# Altium schematic symbol library Microchip Thermal Management.SchLib: 361 symbols (part 9 of 9)
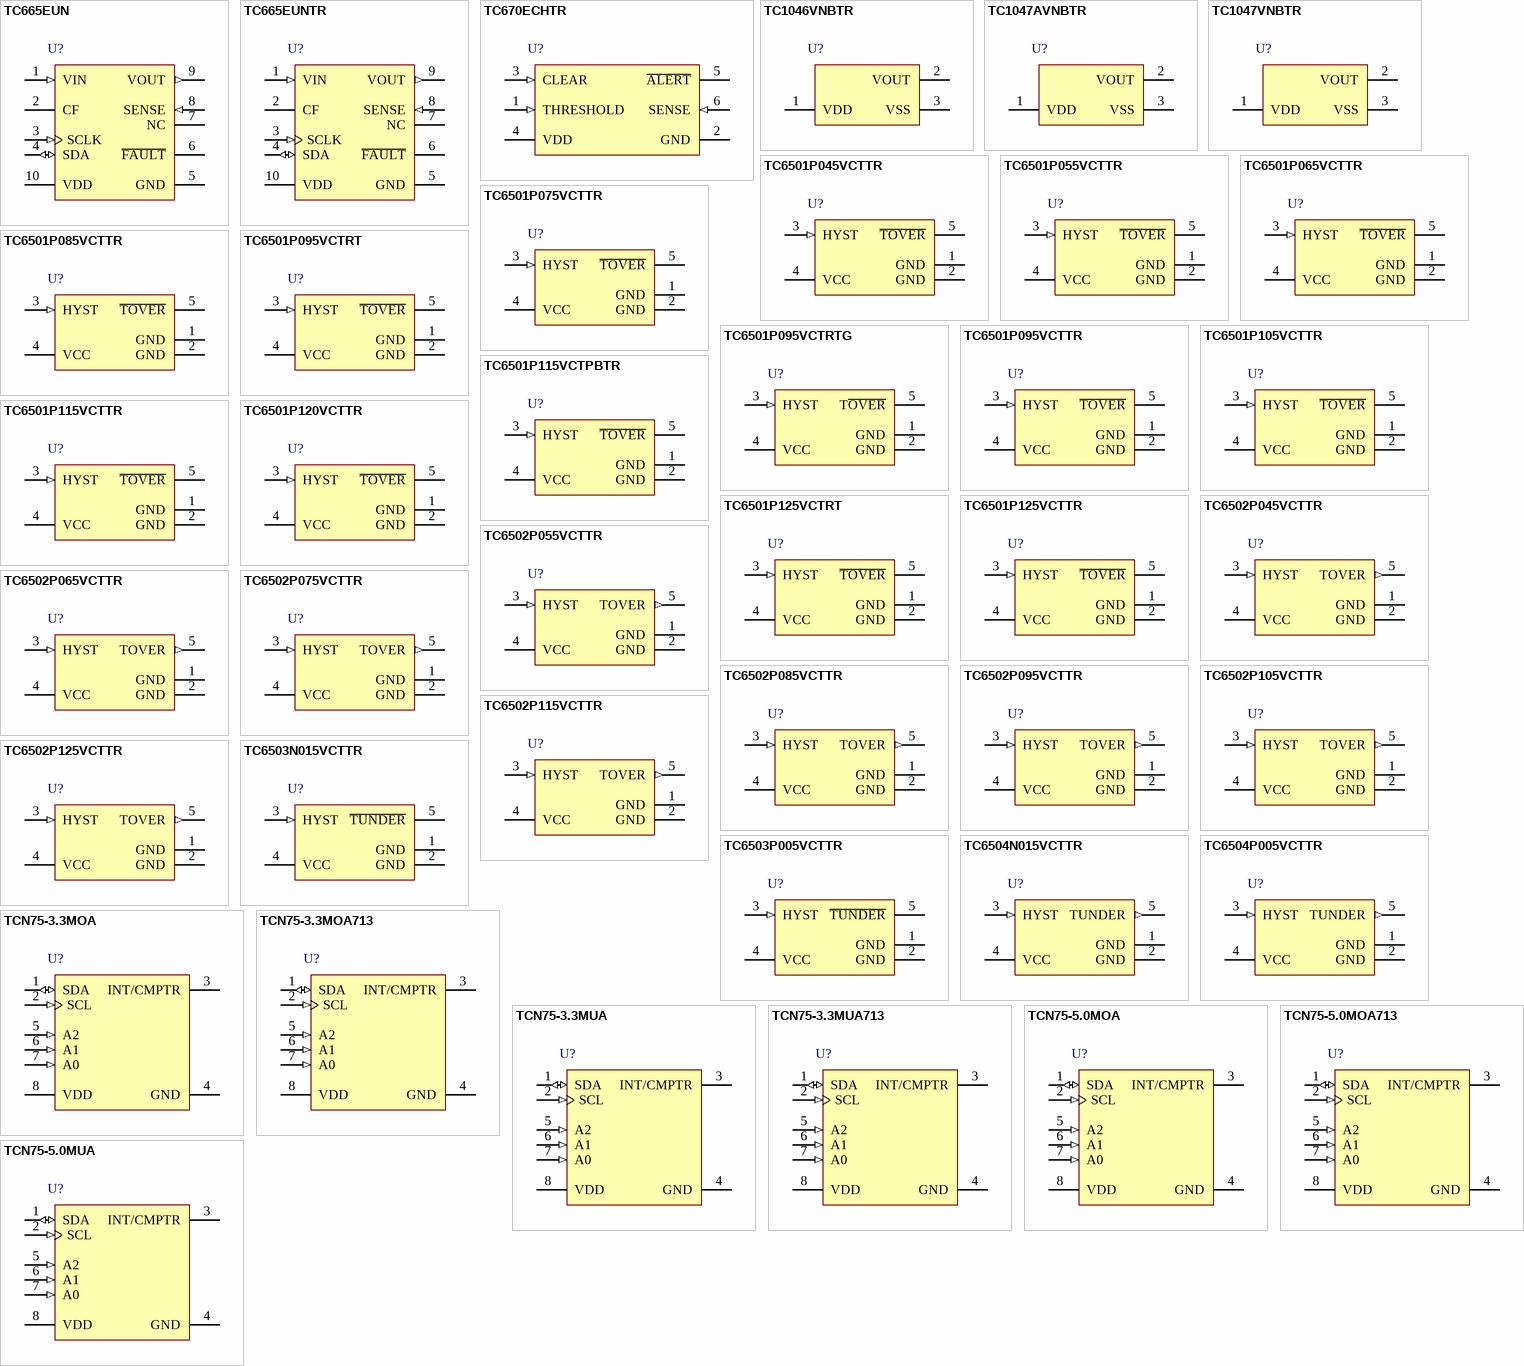
[diagram p17: symbols TC665EUN to TCN75-5.0MUA]

## TC6501P125VCTRT
designator U?
Ultra Small Temperature Switches with Pin Selectable Hysteresis, 5-Pin SOT-23; Manufacturer: Microchip; PartNumber: TC6501P125VCTRT; DatasheetVersion: revD, Jan-2004; PackageVersion: revBB, Aug-2009; PackageReference: SOT-23-CT5; PackageDescription: 5-Lead Plastic Small Outline Transistor (CT) [SOT-23]; Supplier 1: Digi-Key; Supplier Part Number 1: TC6501P125VCTRT-ND; Mounting Technology: Surface Mount; Code_IPC: SOT23-5; ComponentLink1Description: Manufacturer URL; ComponentLink1URL: http://www.microchip.com/; ComponentLink2Description: Datasheet; ComponentLink2URL: http://ww1.microchip.com/downloads/en/DeviceDoc/21451d.pdf; ComponentLink3Description: Package Specification; ComponentLink3URL: http://www.microchip.com/stellent/groups/techpub_sg/documents/packagingspec/en012702.pdf
footprint SOT-23-CT5_N (SOT23, 5-Leads, Body 2.9x1.6mm, Pitch 0.95mm, Lead Span 2.7mm, IPC Medium Density)
footprint SOT-23-CT5_L (SOT23, 5-Leads, Body 2.9x1.6mm, Pitch 0.95mm, Lead Span 2.7mm, IPC High Density)
footprint SOT-23-CT5_M (SOT23, 5-Leads, Body 2.9x1.6mm, Pitch 0.95mm, Lead Span 2.7mm, IPC Low Density)
pins: 1 GND (power), 2 GND (power), 3 HYST (in), 4 VCC (power), 5 ~{TOVER} (oc)

## TC6501P125VCTTR
designator U?
Ultra Small Temperature Switches with Pin Selectable Hysteresis, 5-Pin SOT-23, -55°C to +125°C Temperature, Tape and Reel; Manufacturer: Microchip; PartNumber: TC6501P125VCTTR; DatasheetVersion: revD, Jan-2004; PackageVersion: revBB, Aug-2009; PackageReference: SOT-23-CT5; PackageDescription: 5-Lead Plastic Small Outline Transistor (CT) [SOT-23]; Supplier 1: Digi-Key; Supplier Part Number 1: TC6501P125VCTTR-ND; Mounting Technology: Surface Mount; Code_IPC: SOT23-5; ComponentLink1Description: Manufacturer URL; ComponentLink1URL: http://www.microchip.com/; ComponentLink2Description: Datasheet; ComponentLink2URL: http://ww1.microchip.com/downloads/en/DeviceDoc/21451d.pdf; ComponentLink3Description: Package Specification; ComponentLink3URL: http://www.microchip.com/stellent/groups/techpub_sg/documents/packagingspec/en012702.pdf
footprint SOT-23-CT5_N (SOT23, 5-Leads, Body 2.9x1.6mm, Pitch 0.95mm, Lead Span 2.7mm, IPC Medium Density)
footprint SOT-23-CT5_L (SOT23, 5-Leads, Body 2.9x1.6mm, Pitch 0.95mm, Lead Span 2.7mm, IPC High Density)
footprint SOT-23-CT5_M (SOT23, 5-Leads, Body 2.9x1.6mm, Pitch 0.95mm, Lead Span 2.7mm, IPC Low Density)
pins: 1 GND (power), 2 GND (power), 3 HYST (in), 4 VCC (power), 5 ~{TOVER} (oc)

## TC6502P045VCTTR
designator U?
Ultra Small Temperature Switches with Pin Selectable Hysteresis, 5-Pin SOT-23, -55°C to +125°C Temperature, Tape and Reel; Manufacturer: Microchip; PartNumber: TC6502P045VCTTR; DatasheetVersion: revD, Jan-2004; PackageVersion: revBB, Aug-2009; PackageReference: SOT-23-CT5; PackageDescription: 5-Lead Plastic Small Outline Transistor (CT) [SOT-23]; Supplier 1: Digi-Key; Supplier Part Number 1: TC6502P045VCTTR-ND; Mounting Technology: Surface Mount; Code_IPC: SOT23-5; ComponentLink1Description: Manufacturer URL; ComponentLink1URL: http://www.microchip.com/; ComponentLink2Description: Datasheet; ComponentLink2URL: http://ww1.microchip.com/downloads/en/DeviceDoc/21451d.pdf; ComponentLink3Description: Package Specification; ComponentLink3URL: http://www.microchip.com/stellent/groups/techpub_sg/documents/packagingspec/en012702.pdf
footprint SOT-23-CT5_N (SOT23, 5-Leads, Body 2.9x1.6mm, Pitch 0.95mm, Lead Span 2.7mm, IPC Medium Density)
footprint SOT-23-CT5_L (SOT23, 5-Leads, Body 2.9x1.6mm, Pitch 0.95mm, Lead Span 2.7mm, IPC High Density)
footprint SOT-23-CT5_M (SOT23, 5-Leads, Body 2.9x1.6mm, Pitch 0.95mm, Lead Span 2.7mm, IPC Low Density)
pins: 1 GND (power), 2 GND (power), 3 HYST (in), 4 VCC (power), 5 TOVER (out)

## TC6502P055VCTTR
designator U?
Ultra Small Temperature Switches with Pin Selectable Hysteresis, 5-Pin SOT-23, -55°C to +125°C Temperature, Tape and Reel; Manufacturer: Microchip; PartNumber: TC6502P055VCTTR; DatasheetVersion: revD, Jan-2004; PackageVersion: revBB, Aug-2009; PackageReference: SOT-23-CT5; PackageDescription: 5-Lead Plastic Small Outline Transistor (CT) [SOT-23]; Supplier 1: Digi-Key; Supplier Part Number 1: TC6502P055VCTR-ND; Mounting Technology: Surface Mount; Code_IPC: SOT23-5; ComponentLink1Description: Manufacturer URL; ComponentLink1URL: http://www.microchip.com/; ComponentLink2Description: Datasheet; ComponentLink2URL: http://ww1.microchip.com/downloads/en/DeviceDoc/21451d.pdf; ComponentLink3Description: Package Specification; ComponentLink3URL: http://www.microchip.com/stellent/groups/techpub_sg/documents/packagingspec/en012702.pdf
footprint SOT-23-CT5_N (SOT23, 5-Leads, Body 2.9x1.6mm, Pitch 0.95mm, Lead Span 2.7mm, IPC Medium Density)
footprint SOT-23-CT5_L (SOT23, 5-Leads, Body 2.9x1.6mm, Pitch 0.95mm, Lead Span 2.7mm, IPC High Density)
footprint SOT-23-CT5_M (SOT23, 5-Leads, Body 2.9x1.6mm, Pitch 0.95mm, Lead Span 2.7mm, IPC Low Density)
pins: 1 GND (power), 2 GND (power), 3 HYST (in), 4 VCC (power), 5 TOVER (out)

## TC6502P065VCTTR
designator U?
Ultra Small Temperature Switches with Pin Selectable Hysteresis, 5-Pin SOT-23, -55°C to +125°C Temperature, Tape and Reel; Manufacturer: Microchip; PartNumber: TC6502P065VCTTR; DatasheetVersion: revD, Jan-2004; PackageVersion: revBB, Aug-2009; PackageReference: SOT-23-CT5; PackageDescription: 5-Lead Plastic Small Outline Transistor (CT) [SOT-23]; Supplier 1: Digi-Key; Supplier Part Number 1: TC6502P065VCTR-ND; Mounting Technology: Surface Mount; Code_IPC: SOT23-5; ComponentLink1Description: Manufacturer URL; ComponentLink1URL: http://www.microchip.com/; ComponentLink2Description: Datasheet; ComponentLink2URL: http://ww1.microchip.com/downloads/en/DeviceDoc/21451d.pdf; ComponentLink3Description: Package Specification; ComponentLink3URL: http://www.microchip.com/stellent/groups/techpub_sg/documents/packagingspec/en012702.pdf
footprint SOT-23-CT5_N (SOT23, 5-Leads, Body 2.9x1.6mm, Pitch 0.95mm, Lead Span 2.7mm, IPC Medium Density)
footprint SOT-23-CT5_L (SOT23, 5-Leads, Body 2.9x1.6mm, Pitch 0.95mm, Lead Span 2.7mm, IPC High Density)
footprint SOT-23-CT5_M (SOT23, 5-Leads, Body 2.9x1.6mm, Pitch 0.95mm, Lead Span 2.7mm, IPC Low Density)
pins: 1 GND (power), 2 GND (power), 3 HYST (in), 4 VCC (power), 5 TOVER (out)

## TC6502P075VCTTR
designator U?
Ultra Small Temperature Switches with Pin Selectable Hysteresis, 5-Pin SOT-23, -55°C to +125°C Temperature, Tape and Reel; Manufacturer: Microchip; PartNumber: TC6502P075VCTTR; DatasheetVersion: revD, Jan-2004; PackageVersion: revBB, Aug-2009; PackageReference: SOT-23-CT5; PackageDescription: 5-Lead Plastic Small Outline Transistor (CT) [SOT-23]; Supplier 1: Digi-Key; Supplier Part Number 1: TC6502P075VCTR-ND; Mounting Technology: Surface Mount; Code_IPC: SOT23-5; ComponentLink1Description: Manufacturer URL; ComponentLink1URL: http://www.microchip.com/; ComponentLink2Description: Datasheet; ComponentLink2URL: http://ww1.microchip.com/downloads/en/DeviceDoc/21451d.pdf; ComponentLink3Description: Package Specification; ComponentLink3URL: http://www.microchip.com/stellent/groups/techpub_sg/documents/packagingspec/en012702.pdf
footprint SOT-23-CT5_N (SOT23, 5-Leads, Body 2.9x1.6mm, Pitch 0.95mm, Lead Span 2.7mm, IPC Medium Density)
footprint SOT-23-CT5_L (SOT23, 5-Leads, Body 2.9x1.6mm, Pitch 0.95mm, Lead Span 2.7mm, IPC High Density)
footprint SOT-23-CT5_M (SOT23, 5-Leads, Body 2.9x1.6mm, Pitch 0.95mm, Lead Span 2.7mm, IPC Low Density)
pins: 1 GND (power), 2 GND (power), 3 HYST (in), 4 VCC (power), 5 TOVER (out)

## TC6502P085VCTTR
designator U?
Ultra Small Temperature Switches with Pin Selectable Hysteresis, 5-Pin SOT-23, -55°C to +125°C Temperature, Tape and Reel; Manufacturer: Microchip; PartNumber: TC6502P085VCTTR; DatasheetVersion: revD, Jan-2004; PackageVersion: revBB, Aug-2009; PackageReference: SOT-23-CT5; PackageDescription: 5-Lead Plastic Small Outline Transistor (CT) [SOT-23]; Supplier 1: Digi-Key; Supplier Part Number 1: TC6502P085VCTR-ND; Mounting Technology: Surface Mount; Code_IPC: SOT23-5; ComponentLink1Description: Manufacturer URL; ComponentLink1URL: http://www.microchip.com/; ComponentLink2Description: Datasheet; ComponentLink2URL: http://ww1.microchip.com/downloads/en/DeviceDoc/21451d.pdf; ComponentLink3Description: Package Specification; ComponentLink3URL: http://www.microchip.com/stellent/groups/techpub_sg/documents/packagingspec/en012702.pdf
footprint SOT-23-CT5_N (SOT23, 5-Leads, Body 2.9x1.6mm, Pitch 0.95mm, Lead Span 2.7mm, IPC Medium Density)
footprint SOT-23-CT5_L (SOT23, 5-Leads, Body 2.9x1.6mm, Pitch 0.95mm, Lead Span 2.7mm, IPC High Density)
footprint SOT-23-CT5_M (SOT23, 5-Leads, Body 2.9x1.6mm, Pitch 0.95mm, Lead Span 2.7mm, IPC Low Density)
pins: 1 GND (power), 2 GND (power), 3 HYST (in), 4 VCC (power), 5 TOVER (out)

## TC6502P095VCTTR
designator U?
Ultra Small Temperature Switches with Pin Selectable Hysteresis, 5-Pin SOT-23, -55°C to +125°C Temperature, Tape and Reel; Manufacturer: Microchip; PartNumber: TC6502P095VCTTR; DatasheetVersion: revD, Jan-2004; PackageVersion: revBB, Aug-2009; PackageReference: SOT-23-CT5; PackageDescription: 5-Lead Plastic Small Outline Transistor (CT) [SOT-23]; Supplier 1: Digi-Key; Supplier Part Number 1: TC6502P095VCTR-ND; Mounting Technology: Surface Mount; Code_IPC: SOT23-5; ComponentLink1Description: Manufacturer URL; ComponentLink1URL: http://www.microchip.com/; ComponentLink2Description: Datasheet; ComponentLink2URL: http://ww1.microchip.com/downloads/en/DeviceDoc/21451d.pdf; ComponentLink3Description: Package Specification; ComponentLink3URL: http://www.microchip.com/stellent/groups/techpub_sg/documents/packagingspec/en012702.pdf
footprint SOT-23-CT5_N (SOT23, 5-Leads, Body 2.9x1.6mm, Pitch 0.95mm, Lead Span 2.7mm, IPC Medium Density)
footprint SOT-23-CT5_L (SOT23, 5-Leads, Body 2.9x1.6mm, Pitch 0.95mm, Lead Span 2.7mm, IPC High Density)
footprint SOT-23-CT5_M (SOT23, 5-Leads, Body 2.9x1.6mm, Pitch 0.95mm, Lead Span 2.7mm, IPC Low Density)
pins: 1 GND (power), 2 GND (power), 3 HYST (in), 4 VCC (power), 5 TOVER (out)

## TC6502P105VCTTR
designator U?
Ultra Small Temperature Switches with Pin Selectable Hysteresis, 5-Pin SOT-23, -55°C to +125°C Temperature, Tape and Reel; Manufacturer: Microchip; PartNumber: TC6502P105VCTTR; DatasheetVersion: revD, Jan-2004; PackageVersion: revBB, Aug-2009; PackageReference: SOT-23-CT5; PackageDescription: 5-Lead Plastic Small Outline Transistor (CT) [SOT-23]; Supplier 1: Digi-Key; Supplier Part Number 1: TC6502P105VCTR-ND; Mounting Technology: Surface Mount; Code_IPC: SOT23-5; ComponentLink1Description: Manufacturer URL; ComponentLink1URL: http://www.microchip.com/; ComponentLink2Description: Datasheet; ComponentLink2URL: http://ww1.microchip.com/downloads/en/DeviceDoc/21451d.pdf; ComponentLink3Description: Package Specification; ComponentLink3URL: http://www.microchip.com/stellent/groups/techpub_sg/documents/packagingspec/en012702.pdf
footprint SOT-23-CT5_N (SOT23, 5-Leads, Body 2.9x1.6mm, Pitch 0.95mm, Lead Span 2.7mm, IPC Medium Density)
footprint SOT-23-CT5_L (SOT23, 5-Leads, Body 2.9x1.6mm, Pitch 0.95mm, Lead Span 2.7mm, IPC High Density)
footprint SOT-23-CT5_M (SOT23, 5-Leads, Body 2.9x1.6mm, Pitch 0.95mm, Lead Span 2.7mm, IPC Low Density)
pins: 1 GND (power), 2 GND (power), 3 HYST (in), 4 VCC (power), 5 TOVER (out)

## TC6502P115VCTTR
designator U?
Ultra Small Temperature Switches with Pin Selectable Hysteresis, 5-Pin SOT-23, -55°C to +125°C Temperature, Tape and Reel; Manufacturer: Microchip; PartNumber: TC6502P115VCTTR; DatasheetVersion: revD, Jan-2004; PackageVersion: revBB, Aug-2009; PackageReference: SOT-23-CT5; PackageDescription: 5-Lead Plastic Small Outline Transistor (CT) [SOT-23]; Supplier 1: Digi-Key; Supplier Part Number 1: TC6502P115VCTR-ND; Mounting Technology: Surface Mount; Code_IPC: SOT23-5; ComponentLink1Description: Manufacturer URL; ComponentLink1URL: http://www.microchip.com/; ComponentLink2Description: Datasheet; ComponentLink2URL: http://ww1.microchip.com/downloads/en/DeviceDoc/21451d.pdf; ComponentLink3Description: Package Specification; ComponentLink3URL: http://www.microchip.com/stellent/groups/techpub_sg/documents/packagingspec/en012702.pdf
footprint SOT-23-CT5_N (SOT23, 5-Leads, Body 2.9x1.6mm, Pitch 0.95mm, Lead Span 2.7mm, IPC Medium Density)
footprint SOT-23-CT5_L (SOT23, 5-Leads, Body 2.9x1.6mm, Pitch 0.95mm, Lead Span 2.7mm, IPC High Density)
footprint SOT-23-CT5_M (SOT23, 5-Leads, Body 2.9x1.6mm, Pitch 0.95mm, Lead Span 2.7mm, IPC Low Density)
pins: 1 GND (power), 2 GND (power), 3 HYST (in), 4 VCC (power), 5 TOVER (out)

## TC6502P125VCTTR
designator U?
Ultra Small Temperature Switches with Pin Selectable Hysteresis, 5-Pin SOT-23, -55°C to +125°C Temperature, Tape and Reel; Manufacturer: Microchip; PartNumber: TC6502P125VCTTR; DatasheetVersion: revD, Jan-2004; PackageVersion: revBB, Aug-2009; PackageReference: SOT-23-CT5; PackageDescription: 5-Lead Plastic Small Outline Transistor (CT) [SOT-23]; Supplier 1: Digi-Key; Supplier Part Number 1: TC6502P125VCTTR-ND; Mounting Technology: Surface Mount; Code_IPC: SOT23-5; ComponentLink1Description: Manufacturer URL; ComponentLink1URL: http://www.microchip.com/; ComponentLink2Description: Datasheet; ComponentLink2URL: http://ww1.microchip.com/downloads/en/DeviceDoc/21451d.pdf; ComponentLink3Description: Package Specification; ComponentLink3URL: http://www.microchip.com/stellent/groups/techpub_sg/documents/packagingspec/en012702.pdf
footprint SOT-23-CT5_N (SOT23, 5-Leads, Body 2.9x1.6mm, Pitch 0.95mm, Lead Span 2.7mm, IPC Medium Density)
footprint SOT-23-CT5_L (SOT23, 5-Leads, Body 2.9x1.6mm, Pitch 0.95mm, Lead Span 2.7mm, IPC High Density)
footprint SOT-23-CT5_M (SOT23, 5-Leads, Body 2.9x1.6mm, Pitch 0.95mm, Lead Span 2.7mm, IPC Low Density)
pins: 1 GND (power), 2 GND (power), 3 HYST (in), 4 VCC (power), 5 TOVER (out)

## TC6503N015VCTTR
designator U?
Ultra Small Temperature Switches with Pin Selectable Hysteresis, 5-Pin SOT-23, -55°C to +125°C Temperature, Tape and Reel; Manufacturer: Microchip; PartNumber: TC6503N015VCTTR; DatasheetVersion: revD, Jan-2004; PackageVersion: revBB, Aug-2009; PackageReference: SOT-23-CT5; PackageDescription: 5-Lead Plastic Small Outline Transistor (CT) [SOT-23]; Supplier 1: Digi-Key; Supplier Part Number 1: TC6503N015VCTTR-ND; Mounting Technology: Surface Mount; Code_IPC: SOT23-5; ComponentLink1Description: Manufacturer URL; ComponentLink1URL: http://www.microchip.com/; ComponentLink2Description: Datasheet; ComponentLink2URL: http://ww1.microchip.com/downloads/en/DeviceDoc/21451d.pdf; ComponentLink3Description: Package Specification; ComponentLink3URL: http://www.microchip.com/stellent/groups/techpub_sg/documents/packagingspec/en012702.pdf
footprint SOT-23-CT5_N (SOT23, 5-Leads, Body 2.9x1.6mm, Pitch 0.95mm, Lead Span 2.7mm, IPC Medium Density)
footprint SOT-23-CT5_L (SOT23, 5-Leads, Body 2.9x1.6mm, Pitch 0.95mm, Lead Span 2.7mm, IPC High Density)
footprint SOT-23-CT5_M (SOT23, 5-Leads, Body 2.9x1.6mm, Pitch 0.95mm, Lead Span 2.7mm, IPC Low Density)
pins: 1 GND (power), 2 GND (power), 3 HYST (in), 4 VCC (power), 5 ~{TUNDER} (oc)

## TC6503P005VCTTR
designator U?
Ultra Small Temperature Switches with Pin Selectable Hysteresis, 5-Pin SOT-23, -55°C to +125°C Temperature, Tape and Reel; Manufacturer: Microchip; PartNumber: TC6503P005VCTTR; DatasheetVersion: revD, Jan-2004; PackageVersion: revBB, Aug-2009; PackageReference: SOT-23-CT5; PackageDescription: 5-Lead Plastic Small Outline Transistor (CT) [SOT-23]; Supplier 1: Digi-Key; Supplier Part Number 1: TC6503P005VCTTR-ND; Mounting Technology: Surface Mount; Code_IPC: SOT23-5; ComponentLink1Description: Manufacturer URL; ComponentLink1URL: http://www.microchip.com/; ComponentLink2Description: Datasheet; ComponentLink2URL: http://ww1.microchip.com/downloads/en/DeviceDoc/21451d.pdf; ComponentLink3Description: Package Specification; ComponentLink3URL: http://www.microchip.com/stellent/groups/techpub_sg/documents/packagingspec/en012702.pdf
footprint SOT-23-CT5_N (SOT23, 5-Leads, Body 2.9x1.6mm, Pitch 0.95mm, Lead Span 2.7mm, IPC Medium Density)
footprint SOT-23-CT5_L (SOT23, 5-Leads, Body 2.9x1.6mm, Pitch 0.95mm, Lead Span 2.7mm, IPC High Density)
footprint SOT-23-CT5_M (SOT23, 5-Leads, Body 2.9x1.6mm, Pitch 0.95mm, Lead Span 2.7mm, IPC Low Density)
pins: 1 GND (power), 2 GND (power), 3 HYST (in), 4 VCC (power), 5 ~{TUNDER} (oc)

## TC6504N015VCTTR
designator U?
Ultra Small Temperature Switches with Pin Selectable Hysteresis, 5-Pin SOT-23, -55°C to +125°C Temperature, Tape and Reel; Manufacturer: Microchip; PartNumber: TC6504N015VCTTR; DatasheetVersion: revD, Jan-2004; PackageVersion: revBB, Aug-2009; PackageReference: SOT-23-CT5; PackageDescription: 5-Lead Plastic Small Outline Transistor (CT) [SOT-23]; Supplier 1: Digi-Key; Supplier Part Number 1: TC6504N015VCTTR-ND; Mounting Technology: Surface Mount; Code_IPC: SOT23-5; ComponentLink1Description: Manufacturer URL; ComponentLink1URL: http://www.microchip.com/; ComponentLink2Description: Datasheet; ComponentLink2URL: http://ww1.microchip.com/downloads/en/DeviceDoc/21451d.pdf; ComponentLink3Description: Package Specification; ComponentLink3URL: http://www.microchip.com/stellent/groups/techpub_sg/documents/packagingspec/en012702.pdf
footprint SOT-23-CT5_N (SOT23, 5-Leads, Body 2.9x1.6mm, Pitch 0.95mm, Lead Span 2.7mm, IPC Medium Density)
footprint SOT-23-CT5_L (SOT23, 5-Leads, Body 2.9x1.6mm, Pitch 0.95mm, Lead Span 2.7mm, IPC High Density)
footprint SOT-23-CT5_M (SOT23, 5-Leads, Body 2.9x1.6mm, Pitch 0.95mm, Lead Span 2.7mm, IPC Low Density)
pins: 1 GND (power), 2 GND (power), 3 HYST (in), 4 VCC (power), 5 TUNDER (out)

## TC6504P005VCTTR
designator U?
Ultra Small Temperature Switches with Pin Selectable Hysteresis, 5-Pin SOT-23, -55°C to +125°C Temperature, Tape and Reel; Manufacturer: Microchip; PartNumber: TC6504P005VCTTR; DatasheetVersion: revD, Jan-2004; PackageVersion: revBB, Aug-2009; PackageReference: SOT-23-CT5; PackageDescription: 5-Lead Plastic Small Outline Transistor (CT) [SOT-23]; Supplier 1: Digi-Key; Supplier Part Number 1: TC6504P005VCTTR-ND; Mounting Technology: Surface Mount; Code_IPC: SOT23-5; ComponentLink1Description: Manufacturer URL; ComponentLink1URL: http://www.microchip.com/; ComponentLink2Description: Datasheet; ComponentLink2URL: http://ww1.microchip.com/downloads/en/DeviceDoc/21451d.pdf; ComponentLink3Description: Package Specification; ComponentLink3URL: http://www.microchip.com/stellent/groups/techpub_sg/documents/packagingspec/en012702.pdf
footprint SOT-23-CT5_N (SOT23, 5-Leads, Body 2.9x1.6mm, Pitch 0.95mm, Lead Span 2.7mm, IPC Medium Density)
footprint SOT-23-CT5_L (SOT23, 5-Leads, Body 2.9x1.6mm, Pitch 0.95mm, Lead Span 2.7mm, IPC High Density)
footprint SOT-23-CT5_M (SOT23, 5-Leads, Body 2.9x1.6mm, Pitch 0.95mm, Lead Span 2.7mm, IPC Low Density)
pins: 1 GND (power), 2 GND (power), 3 HYST (in), 4 VCC (power), 5 TUNDER (out)

## TCN75-3.3MOA
designator U?
2-Wire Serial Temperature Sensor and Thermal Monitor, 8-Pin SOIC, -55°C to +125°C Temperature; Manufacturer: Microchip; PartNumber: TCN75-3.3MOA; DatasheetVersion: revC, Feb-2006; PackageVersion: revBB, Aug-2009; PackageReference: SOIC-OA8; PackageDescription: 8-Lead Plastic Small Outline (OA) - Narrow, 3.90mm Body [SOIC]; Supplier 1: Digi-Key; Supplier Part Number 1: TCN75-3.3MOA-ND; Mounting Technology: Surface Mount; Code_IPC: SOIC127P600-8; ComponentLink1Description: Manufacturer URL; ComponentLink1URL: http://www.microchip.com/; ComponentLink2Description: Datasheet; ComponentLink2URL: http://ww1.microchip.com/downloads/en/DeviceDoc/21490C.pdf; ComponentLink3Description: Package Specification; ComponentLink3URL: http://www.microchip.com/stellent/groups/techpub_sg/documents/packagingspec/en012702.pdf
footprint SOIC-OA8_N (SOIC, 8-Leads, Body 4.9x3.9mm, Pitch 1.27mm, IPC Medium Density)
footprint SOIC-OA8_L (SOIC, 8-Leads, Body 4.9x3.9mm, Pitch 1.27mm, IPC High Density)
footprint SOIC-OA8_M (SOIC, 8-Leads, Body 4.9x3.9mm, Pitch 1.27mm, IPC Low Density)
pins: 1 SDA (io), 2 SCL (in), 3 INT/CMPTR (oc), 4 GND (power), 5 A2 (in), 6 A1 (in), 7 A0 (in), 8 VDD (power)

## TCN75-3.3MOA713
designator U?
2-Wire Serial Temperature Sensor and Thermal Monitor, 8-Pin SOIC, -55°C to +125°C Temperature, Tape and Reel; Manufacturer: Microchip; PartNumber: TCN75-3.3MOA713; DatasheetVersion: revC, Feb-2006; PackageVersion: revBB, Aug-2009; PackageReference: SOIC-OA8; PackageDescription: 8-Lead Plastic Small Outline (OA) - Narrow, 3.90mm Body [SOIC]; Supplier 1: Digi-Key; Supplier Part Number 1: TCN75-3.3MOA713-ND; Mounting Technology: Surface Mount; Code_IPC: SOIC127P600-8; ComponentLink1Description: Manufacturer URL; ComponentLink1URL: http://www.microchip.com/; ComponentLink2Description: Datasheet; ComponentLink2URL: http://ww1.microchip.com/downloads/en/DeviceDoc/21490C.pdf; ComponentLink3Description: Package Specification; ComponentLink3URL: http://www.microchip.com/stellent/groups/techpub_sg/documents/packagingspec/en012702.pdf
footprint SOIC-OA8_N (SOIC, 8-Leads, Body 4.9x3.9mm, Pitch 1.27mm, IPC Medium Density)
footprint SOIC-OA8_L (SOIC, 8-Leads, Body 4.9x3.9mm, Pitch 1.27mm, IPC High Density)
footprint SOIC-OA8_M (SOIC, 8-Leads, Body 4.9x3.9mm, Pitch 1.27mm, IPC Low Density)
pins: 1 SDA (io), 2 SCL (in), 3 INT/CMPTR (oc), 4 GND (power), 5 A2 (in), 6 A1 (in), 7 A0 (in), 8 VDD (power)

## TCN75-3.3MUA
designator U?
2-Wire Serial Temperature Sensor and Thermal Monitor, 8-Pin MSOP, -55°C to +125°C Temperature; Manufacturer: Microchip; PartNumber: TCN75-3.3MUA; DatasheetVersion: revC, Feb-2006; PackageVersion: revBB, Aug-2009; PackageReference: MSOP-UA8; PackageDescription: 8-Lead Plastic Micro Small Outline Package (UA) [MSOP]; Supplier 1: Digi-Key; Supplier Part Number 1: TCN75-3.3MUA-ND; Mounting Technology: Surface Mount; Code_JEDEC: MO-187-AA; ComponentLink1Description: Manufacturer URL; ComponentLink1URL: http://www.microchip.com/; ComponentLink2Description: Datasheet; ComponentLink2URL: http://ww1.microchip.com/downloads/en/DeviceDoc/21490C.pdf; ComponentLink3Description: Package Specification; ComponentLink3URL: http://www.microchip.com/stellent/groups/techpub_sg/documents/packagingspec/en012702.pdf
footprint MSOP-UA8_N (TSOP, 8-Leads, Body 3x3mm, Pitch 0.65mm, IPC Medium Density)
footprint MSOP-UA8_L (TSOP, 8-Leads, Body 3x3mm, Pitch 0.65mm, IPC High Density)
footprint MSOP-UA8_M (TSOP, 8-Leads, Body 3x3mm, Pitch 0.65mm, IPC Low Density)
pins: 1 SDA (io), 2 SCL (in), 3 INT/CMPTR (oc), 4 GND (power), 5 A2 (in), 6 A1 (in), 7 A0 (in), 8 VDD (power)

## TCN75-3.3MUA713
designator U?
2-Wire Serial Temperature Sensor and Thermal Monitor, 8-Pin MSOP, -55°C to +125°C Temperature, Tape and Reel; Manufacturer: Microchip; PartNumber: TCN75-3.3MUA713; DatasheetVersion: revC, Feb-2006; PackageVersion: revBB, Aug-2009; PackageReference: MSOP-UA8; PackageDescription: 8-Lead Plastic Micro Small Outline Package (UA) [MSOP]; Supplier 1: Digi-Key; Supplier Part Number 1: TCN75-3.3MUA713-ND; Mounting Technology: Surface Mount; Code_JEDEC: MO-187-AA; ComponentLink1Description: Manufacturer URL; ComponentLink1URL: http://www.microchip.com/; ComponentLink2Description: Datasheet; ComponentLink2URL: http://ww1.microchip.com/downloads/en/DeviceDoc/21490C.pdf; ComponentLink3Description: Package Specification; ComponentLink3URL: http://www.microchip.com/stellent/groups/techpub_sg/documents/packagingspec/en012702.pdf
footprint MSOP-UA8_N (TSOP, 8-Leads, Body 3x3mm, Pitch 0.65mm, IPC Medium Density)
footprint MSOP-UA8_L (TSOP, 8-Leads, Body 3x3mm, Pitch 0.65mm, IPC High Density)
footprint MSOP-UA8_M (TSOP, 8-Leads, Body 3x3mm, Pitch 0.65mm, IPC Low Density)
pins: 1 SDA (io), 2 SCL (in), 3 INT/CMPTR (oc), 4 GND (power), 5 A2 (in), 6 A1 (in), 7 A0 (in), 8 VDD (power)

## TCN75-5.0MOA
designator U?
2-Wire Serial Temperature Sensor and Thermal Monitor, 8-Pin SOIC, -55°C to +125°C Temperature; Manufacturer: Microchip; PartNumber: TCN75-5.0MOA; DatasheetVersion: revC, Feb-2006; PackageVersion: revBB, Aug-2009; PackageReference: SOIC-OA8; PackageDescription: 8-Lead Plastic Small Outline (OA) - Narrow, 3.90mm Body [SOIC]; Supplier 1: Digi-Key; Supplier Part Number 1: TCN75-5.0MOA-ND; Mounting Technology: Surface Mount; Code_IPC: SOIC127P600-8; ComponentLink1Description: Manufacturer URL; ComponentLink1URL: http://www.microchip.com/; ComponentLink2Description: Datasheet; ComponentLink2URL: http://ww1.microchip.com/downloads/en/DeviceDoc/21490C.pdf; ComponentLink3Description: Package Specification; ComponentLink3URL: http://www.microchip.com/stellent/groups/techpub_sg/documents/packagingspec/en012702.pdf
footprint SOIC-OA8_N (SOIC, 8-Leads, Body 4.9x3.9mm, Pitch 1.27mm, IPC Medium Density)
footprint SOIC-OA8_L (SOIC, 8-Leads, Body 4.9x3.9mm, Pitch 1.27mm, IPC High Density)
footprint SOIC-OA8_M (SOIC, 8-Leads, Body 4.9x3.9mm, Pitch 1.27mm, IPC Low Density)
pins: 1 SDA (io), 2 SCL (in), 3 INT/CMPTR (oc), 4 GND (power), 5 A2 (in), 6 A1 (in), 7 A0 (in), 8 VDD (power)

## TCN75-5.0MOA713
designator U?
2-Wire Serial Temperature Sensor and Thermal Monitor, 8-Pin SOIC, -55°C to +125°C Temperature, Tape and Reel; Manufacturer: Microchip; PartNumber: TCN75-5.0MOA713; DatasheetVersion: revC, Feb-2006; PackageVersion: revBB, Aug-2009; PackageReference: SOIC-OA8; PackageDescription: 8-Lead Plastic Small Outline (OA) - Narrow, 3.90mm Body [SOIC]; Supplier 1: Digi-Key; Supplier Part Number 1: TCN75-5.0MOA713-ND; Mounting Technology: Surface Mount; Code_IPC: SOIC127P600-8; ComponentLink1Description: Manufacturer URL; ComponentLink1URL: http://www.microchip.com/; ComponentLink2Description: Datasheet; ComponentLink2URL: http://ww1.microchip.com/downloads/en/DeviceDoc/21490C.pdf; ComponentLink3Description: Package Specification; ComponentLink3URL: http://www.microchip.com/stellent/groups/techpub_sg/documents/packagingspec/en012702.pdf
footprint SOIC-OA8_N (SOIC, 8-Leads, Body 4.9x3.9mm, Pitch 1.27mm, IPC Medium Density)
footprint SOIC-OA8_L (SOIC, 8-Leads, Body 4.9x3.9mm, Pitch 1.27mm, IPC High Density)
footprint SOIC-OA8_M (SOIC, 8-Leads, Body 4.9x3.9mm, Pitch 1.27mm, IPC Low Density)
pins: 1 SDA (io), 2 SCL (in), 3 INT/CMPTR (oc), 4 GND (power), 5 A2 (in), 6 A1 (in), 7 A0 (in), 8 VDD (power)

## TCN75-5.0MUA
designator U?
2-Wire Serial Temperature Sensor and Thermal Monitor, 8-Pin MSOP, -55°C to +125°C Temperature; Manufacturer: Microchip; PartNumber: TCN75-5.0MUA; DatasheetVersion: revC, Feb-2006; PackageVersion: revBB, Aug-2009; PackageReference: MSOP-UA8; PackageDescription: 8-Lead Plastic Micro Small Outline Package (UA) [MSOP]; Supplier 1: Digi-Key; Supplier Part Number 1: TCN75-5.0MUA-ND; Mounting Technology: Surface Mount; Code_JEDEC: MO-187-AA; ComponentLink1Description: Manufacturer URL; ComponentLink1URL: http://www.microchip.com/; ComponentLink2Description: Datasheet; ComponentLink2URL: http://ww1.microchip.com/downloads/en/DeviceDoc/21490C.pdf; ComponentLink3Description: Package Specification; ComponentLink3URL: http://www.microchip.com/stellent/groups/techpub_sg/documents/packagingspec/en012702.pdf
footprint MSOP-UA8_N (TSOP, 8-Leads, Body 3x3mm, Pitch 0.65mm, IPC Medium Density)
footprint MSOP-UA8_L (TSOP, 8-Leads, Body 3x3mm, Pitch 0.65mm, IPC High Density)
footprint MSOP-UA8_M (TSOP, 8-Leads, Body 3x3mm, Pitch 0.65mm, IPC Low Density)
pins: 1 SDA (io), 2 SCL (in), 3 INT/CMPTR (oc), 4 GND (power), 5 A2 (in), 6 A1 (in), 7 A0 (in), 8 VDD (power)

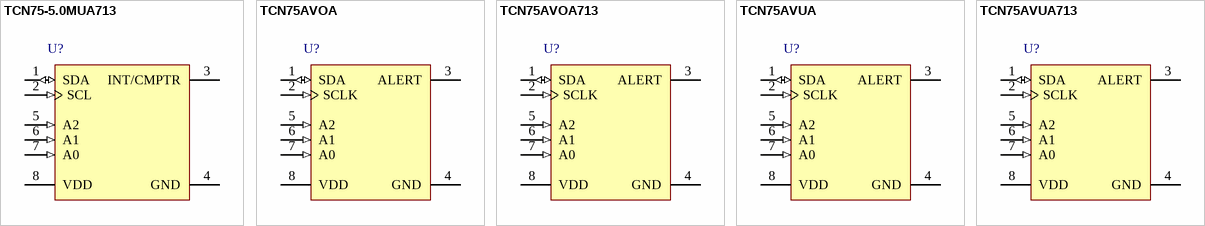
[diagram p9: symbols TCN75-5.0MUA713 to TCN75AVUA713]

## TCN75-5.0MUA713
designator U?
2-Wire Serial Temperature Sensor and Thermal Monitor, 8-Pin MSOP, -55°C to +125°C Temperature, Tape and Reel; Manufacturer: Microchip; PartNumber: TCN75-5.0MUA713; DatasheetVersion: revC, Feb-2006; PackageVersion: revBB, Aug-2009; PackageReference: MSOP-UA8; PackageDescription: 8-Lead Plastic Micro Small Outline Package (UA) [MSOP]; Supplier 1: Digi-Key; Supplier Part Number 1: TCN75-5.0MUA713-ND; Mounting Technology: Surface Mount; Code_JEDEC: MO-187-AA; ComponentLink1Description: Manufacturer URL; ComponentLink1URL: http://www.microchip.com/; ComponentLink2Description: Datasheet; ComponentLink2URL: http://ww1.microchip.com/downloads/en/DeviceDoc/21490C.pdf; ComponentLink3Description: Package Specification; ComponentLink3URL: http://www.microchip.com/stellent/groups/techpub_sg/documents/packagingspec/en012702.pdf
footprint MSOP-UA8_N (TSOP, 8-Leads, Body 3x3mm, Pitch 0.65mm, IPC Medium Density)
footprint MSOP-UA8_L (TSOP, 8-Leads, Body 3x3mm, Pitch 0.65mm, IPC High Density)
footprint MSOP-UA8_M (TSOP, 8-Leads, Body 3x3mm, Pitch 0.65mm, IPC Low Density)
pins: 1 SDA (io), 2 SCL (in), 3 INT/CMPTR (oc), 4 GND (power), 5 A2 (in), 6 A1 (in), 7 A0 (in), 8 VDD (power)

## TCN75AVOA
designator U?
2-Wire Serial Temperature Sensor, 8-Pin SOIC, Extended Temperature; Manufacturer: Microchip; PartNumber: TCN75AVOA; DatasheetVersion: revC, Nov-2006; PackageVersion: revBB, Aug-2009; PackageReference: SOIC-OA8; PackageDescription: 8-Lead Plastic Small Outline (OA) - Narrow, 3.90mm Body [SOIC]; Supplier 1: Digi-Key; Supplier Part Number 1: TCN75AVOA-ND; Mounting Technology: Surface Mount; Code_IPC: SOIC127P600-8; ComponentLink1Description: Manufacturer URL; ComponentLink1URL: http://www.microchip.com/; ComponentLink2Description: Datasheet; ComponentLink2URL: http://ww1.microchip.com/downloads/en/DeviceDoc/21935c.pdf; ComponentLink3Description: Package Specification; ComponentLink3URL: http://www.microchip.com/stellent/groups/techpub_sg/documents/packagingspec/en012702.pdf
footprint SOIC-OA8_N (SOIC, 8-Leads, Body 4.9x3.9mm, Pitch 1.27mm, IPC Medium Density)
footprint SOIC-OA8_L (SOIC, 8-Leads, Body 4.9x3.9mm, Pitch 1.27mm, IPC High Density)
footprint SOIC-OA8_M (SOIC, 8-Leads, Body 4.9x3.9mm, Pitch 1.27mm, IPC Low Density)
pins: 1 SDA (io), 2 SCLK (in), 3 ALERT (oc), 4 GND (power), 5 A2 (in), 6 A1 (in), 7 A0 (in), 8 VDD (power)

## TCN75AVOA713
designator U?
2-Wire Serial Temperature Sensor, 8-Pin SOIC, Extended Temperature, Tape and Reel; Manufacturer: Microchip; PartNumber: TCN75AVOA713; DatasheetVersion: revC, Nov-2006; PackageVersion: revBB, Aug-2009; PackageReference: SOIC-OA8; PackageDescription: 8-Lead Plastic Small Outline (OA) - Narrow, 3.90mm Body [SOIC]; Supplier 1: Digi-Key; Supplier Part Number 1: TCN75AVOA713-ND; Mounting Technology: Surface Mount; Code_IPC: SOIC127P600-8; ComponentLink1Description: Manufacturer URL; ComponentLink1URL: http://www.microchip.com/; ComponentLink2Description: Datasheet; ComponentLink2URL: http://ww1.microchip.com/downloads/en/DeviceDoc/21935c.pdf; ComponentLink3Description: Package Specification; ComponentLink3URL: http://www.microchip.com/stellent/groups/techpub_sg/documents/packagingspec/en012702.pdf
footprint SOIC-OA8_N (SOIC, 8-Leads, Body 4.9x3.9mm, Pitch 1.27mm, IPC Medium Density)
footprint SOIC-OA8_L (SOIC, 8-Leads, Body 4.9x3.9mm, Pitch 1.27mm, IPC High Density)
footprint SOIC-OA8_M (SOIC, 8-Leads, Body 4.9x3.9mm, Pitch 1.27mm, IPC Low Density)
pins: 1 SDA (io), 2 SCLK (in), 3 ALERT (oc), 4 GND (power), 5 A2 (in), 6 A1 (in), 7 A0 (in), 8 VDD (power)

## TCN75AVUA
designator U?
2-Wire Serial Temperature Sensor, 8-Pin MSOP, Extended Temperature; Manufacturer: Microchip; PartNumber: TCN75AVUA; DatasheetVersion: revC, Nov-2006; PackageVersion: revBB, Aug-2009; PackageReference: MSOP-UA8; PackageDescription: 8-Lead Plastic Micro Small Outline Package (UA) [MSOP]; Supplier 1: Digi-Key; Supplier Part Number 1: TCN75AVUA-ND; Mounting Technology: Surface Mount; Code_JEDEC: MO-187-AA; ComponentLink1Description: Manufacturer URL; ComponentLink1URL: http://www.microchip.com/; ComponentLink2Description: Datasheet; ComponentLink2URL: http://ww1.microchip.com/downloads/en/DeviceDoc/21935c.pdf; ComponentLink3Description: Package Specification; ComponentLink3URL: http://www.microchip.com/stellent/groups/techpub_sg/documents/packagingspec/en012702.pdf
footprint MSOP-UA8_N (TSOP, 8-Leads, Body 3x3mm, Pitch 0.65mm, IPC Medium Density)
footprint MSOP-UA8_L (TSOP, 8-Leads, Body 3x3mm, Pitch 0.65mm, IPC High Density)
footprint MSOP-UA8_M (TSOP, 8-Leads, Body 3x3mm, Pitch 0.65mm, IPC Low Density)
pins: 1 SDA (io), 2 SCLK (in), 3 ALERT (oc), 4 GND (power), 5 A2 (in), 6 A1 (in), 7 A0 (in), 8 VDD (power)

## TCN75AVUA713
designator U?
2-Wire Serial Temperature Sensor, 8-Pin MSOP, Extended Temperature, Tape and Reel; Manufacturer: Microchip; PartNumber: TCN75AVUA713; DatasheetVersion: revC, Nov-2006; PackageVersion: revBB, Aug-2009; PackageReference: MSOP-UA8; PackageDescription: 8-Lead Plastic Micro Small Outline Package (UA) [MSOP]; Supplier 1: Digi-Key; Supplier Part Number 1: TCN75AVUA713-ND; Mounting Technology: Surface Mount; Code_JEDEC: MO-187-AA; ComponentLink1Description: Manufacturer URL; ComponentLink1URL: http://www.microchip.com/; ComponentLink2Description: Datasheet; ComponentLink2URL: http://ww1.microchip.com/downloads/en/DeviceDoc/21935c.pdf; ComponentLink3Description: Package Specification; ComponentLink3URL: http://www.microchip.com/stellent/groups/techpub_sg/documents/packagingspec/en012702.pdf
footprint MSOP-UA8_N (TSOP, 8-Leads, Body 3x3mm, Pitch 0.65mm, IPC Medium Density)
footprint MSOP-UA8_L (TSOP, 8-Leads, Body 3x3mm, Pitch 0.65mm, IPC High Density)
footprint MSOP-UA8_M (TSOP, 8-Leads, Body 3x3mm, Pitch 0.65mm, IPC Low Density)
pins: 1 SDA (io), 2 SCLK (in), 3 ALERT (oc), 4 GND (power), 5 A2 (in), 6 A1 (in), 7 A0 (in), 8 VDD (power)